# EAGLE library part CPL-CON-MICROSD (library TinWhiskers)
Connector: MicroSD; Mfr: Molex (47219-2001) Datasheet: http://www.molex.com/pdm_docs/sd/472192001_sd.pdf
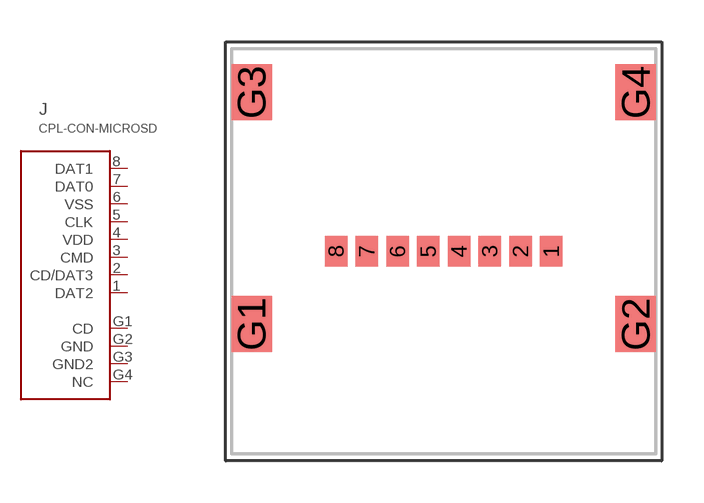
[diagram p11: symbol with the pads of SD(MICRO)-CONN-47219(MOLEX); footprint SD(MICRO)-CONN-47219(MOLEX)]

Designator prefix J

## CPL-CON-MICROSDMOLEX(47219XXXX)  [SD(MICRO)-CONN-47219(MOLEX)]
1  DAT2
2  CD/DAT3
3  CMD
4  VDD
5  CLK
6  VSS
7  DAT0
8  DAT1
G1  CD
G2  GND
G3  GND2
G4  NC

## Footprint SD(MICRO)-CONN-47219(MOLEX) (pad centres in mm)
MicroSD Connector: Molex (47219-001); Datasheet: http://www.molex.com/pdm_docs/sd/472192001_sd.pdf
smd 0.8 x 1.1: 1 3.85,0; 2 2.75,0; 3 1.65,0; 4 0.55,0; 5 -0.55,0; 6 -1.65,0; 7 -2.75,0; 8 -3.85,0
smd 1.45 x 2: G1 -6.875,-2.6; G2 6.875,-2.6; G3 -6.875,5.7; G4 6.875,5.7